# EAGLE library part CWF-11 (library gost_con_wf)
Разъем CWF шаг 2.50 mm
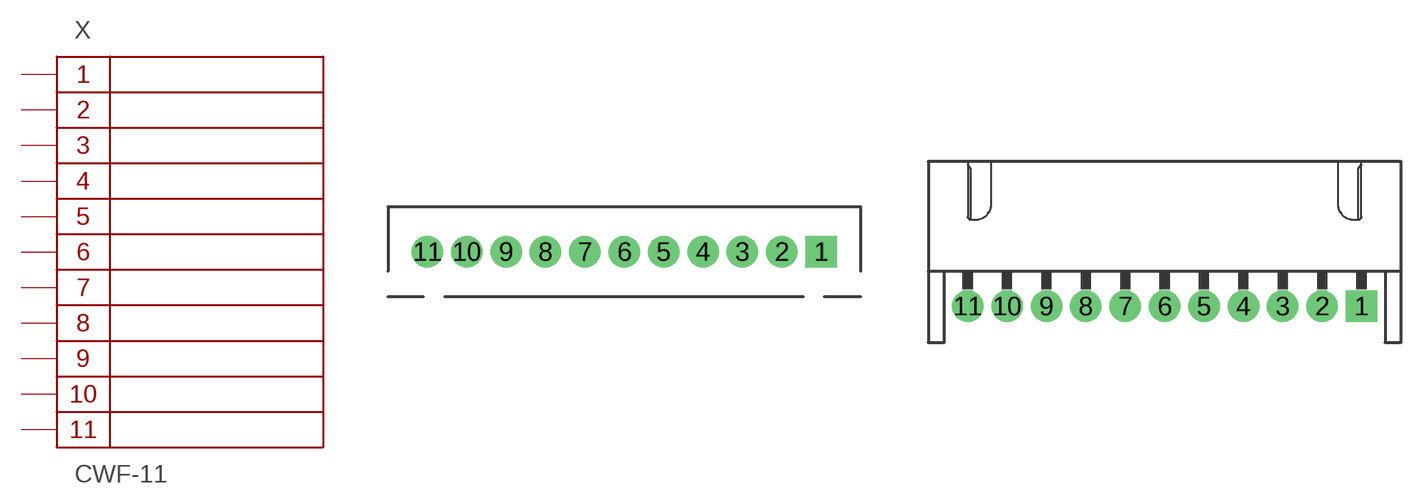
[diagram p12: symbol with the pads of CWF-11; footprints CWF-11, CWF-11R]

Designator prefix X

## CWF-11  [CWF-11]
1  1
2  2
3  3
4  4
5  5
6  6
7  7
8  8
9  9
10  10
11  11

## CWF-11R  [CWF-11R]
Pads as for CWF-11

## Footprint CWF-11 (pad centres in mm)
Разъем CWF-11 2.50mm
drill 1 pad 2 square: 1 12.5,0
drill 1 pad 2: 2 10,0; 3 7.5,0; 4 5,0; 5 2.5,0; 6 0,0; 7 -2.5,0; 8 -5,0; 9 -7.5,0; 10 -10,0; 11 -12.5,0

## Footprint CWF-11R (pad centres in mm)
Разъем CWF-11R 2.50mm h=9.2mm
drill 1 pad 2 square: 1 12.5,0
drill 1 pad 2: 2 10,0; 3 7.5,0; 4 5,0; 5 2.5,0; 6 0,0; 7 -2.5,0; 8 -5,0; 9 -7.5,0; 10 -10,0; 11 -12.5,0